# Altium schematic symbol library PC817X1NIP1B.SchLib: 1 symbol
Pins are listed as number, name and electrical type; pins without a type are passive.

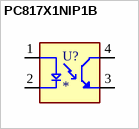
[diagram p0: symbol PC817X1NIP1B]

## PC817X1NIP1B
designator U?
Optoisolator Transistor Output 1 Channel 4-SMD; MF: Sharp Microelectronics; MP: PC817X1NIP1B; SnapEDA_Link: https://www.snapeda.com/parts/PC817X1NIP1B/Sharp+Microelectronics/view-part/?ref=snap; Package: None; Value: *; Check_prices: https://www.snapeda.com/parts/PC817X1NIP1B/Sharp+Microelectronics/view-part/?ref=eda
footprint SOIC254P960X420-4N
pins: 1 A, 2 C, 3 ET, 4 CT